# EAGLE library part ODROID-C2 (library zumy)
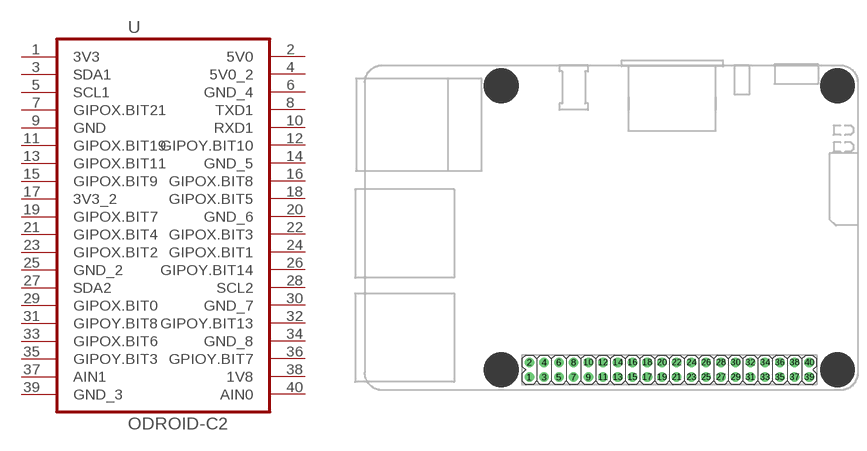
[diagram p8: symbol with the pads of ODROID-C2-BOARD; footprint ODROID-C2-BOARD]

Designator prefix -

## ODROID-C2  [ODROID-C2-BOARD]
1  3V3  pas
2  5V0  pas
3  SDA1  pas
4  5V0_2  pas
5  SCL1  pas
6  GND_4  pas
7  GIPOX.BIT21  pas
8  TXD1  pas
9  GND  pas
10  RXD1  pas
11  GIPOX.BIT19  pas
12  GIPOY.BIT10  pas
13  GIPOX.BIT11  pas
14  GND_5  pas
15  GIPOX.BIT9  pas
16  GIPOX.BIT8  pas
17  3V3_2  pas
18  GIPOX.BIT5  pas
19  GIPOX.BIT7  pas
20  GND_6  pas
21  GIPOX.BIT4  pas
22  GIPOX.BIT3  pas
23  GIPOX.BIT2  pas
24  GIPOX.BIT1  pas
25  GND_2  pas
26  GIPOY.BIT14  pas
27  SDA2  pas
28  SCL2  pas
29  GIPOX.BIT0  pas
30  GND_7  pas
31  GIPOY.BIT8  pas
32  GIPOY.BIT13  pas
33  GIPOX.BIT6  pas
34  GND_8  pas
35  GIPOY.BIT3  pas
36  GPIOY.BIT7  pas
37  AIN1  pas
38  1V8  pas
39  GND_3  pas
40  AIN0  pas

## Footprint ODROID-C2-BOARD (pad centres in mm)
drill 1.016 pad 1.651: 1 28.37,2.23; 2 28.37,4.77; 3 30.91,2.23; 4 30.91,4.77; 5 33.45,2.23; 6 33.45,4.77; 7 35.99,2.23; 8 35.99,4.77; 9 38.53,2.23; 10 38.53,4.77; 11 41.07,2.23; 12 41.07,4.77; 13 43.61,2.23; 14 43.61,4.77; 15 46.15,2.23; 16 46.15,4.77; 17 48.69,2.23; 18 48.69,4.77; 19 51.23,2.23; 20 51.23,4.77; 21 53.77,2.23; 22 53.77,4.77; 23 56.31,2.23; 24 56.31,4.77; 25 58.85,2.23; 26 58.85,4.77; 27 61.39,2.23; 28 61.39,4.77; 29 63.93,2.23; 30 63.93,4.77; 31 66.47,2.23; 32 66.47,4.77; 33 69.01,2.23; 34 69.01,4.77; 35 71.55,2.23; 36 71.55,4.77; 37 74.09,2.23; 38 74.09,4.77; 39 76.63,2.23; 40 76.63,4.77
hole 3 at 23.5,3.5
hole 3 at 23.5,52.5
hole 3 at 81.5,3.5
hole 3 at 81.5,52.5